# Altium schematic symbol library LED RGB APFA3011-AK13_F.Schlib: 1 symbol
Pins are listed as number, name and electrical type; pins without a type are passive.

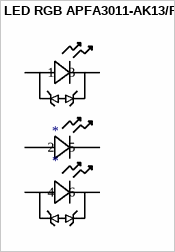
[diagram p0: symbol LED RGB APFA3011-AK13/F]

## LED RGB APFA3011-AK13/F
designator *
ComponentLink1Description: Digikey; ComponentLink1URL: https://www.digikey.com/en/products/detail/kingbright/APFA3011-AK13-F/7597102
footprint LED RGB APFA3011-AK13/F
pins: 1, 2, 3, 4, 5, 6